# Altium footprint library STM32F103RET6.PcbLib: 24 footprints (part 1 of 2)
Each footprint in its own frame and in the unit in brackets; x right, y up, seen from the top. Pads: shape width x height; smd on the part's side, far side on the other; paste and mask are expansions set on the pad; w line width, h text height; cw(c..) or ccw(c..) is an arc to the next point about the centre after c.
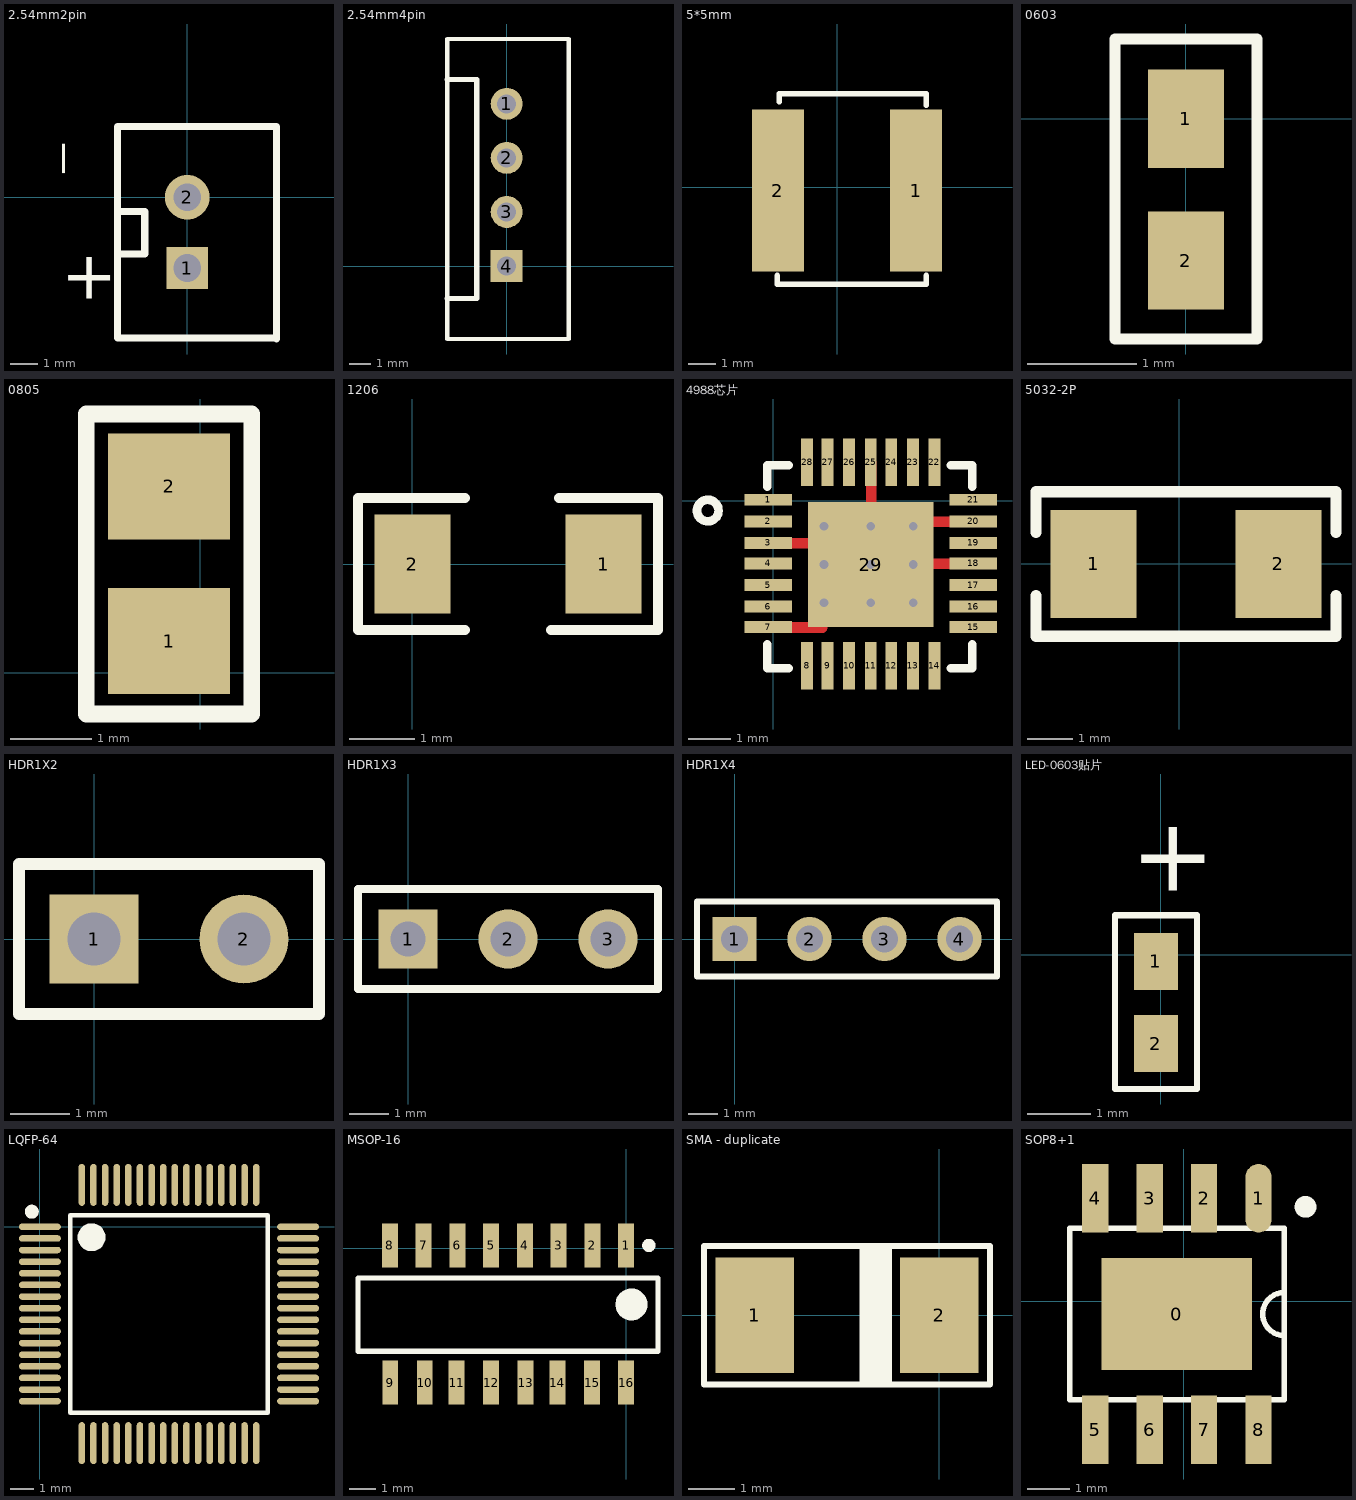
[diagram p0: the footprints below, top view; thin cyan lines are the x and y axes]

## 2.54mm2pin [mm]
pads (2):
  rect 1.5x1.5 hole 1: 1(0,-2.54)
  round 1.6 hole 1: 2(0,0)
Top Overlay:
  lines w0.254: -2.5,-2.032 -1.524,-2.032 -1.524,-0.508 -2.5,-0.508 ; -0.508,-5.04 3.16,-5.04 ; 0.04,-5.04 -2.5,-5.04 -2.5,-3.516 -2.5,2.54 3.2,2.54 3.2,-5.08
  text "-" at -2.5,0.671 h5
  text "+" at -4.511,-4.214 h3

## 2.54mm4pin [mm]
pads (4):
  round 1.5 hole 0.9: 1(0,7.62) 2(0,5.08) 3(0,2.54)
  rect 1.5x1.5 hole 0.9: 4(0,0)
Top Overlay:
  lines w0.2: -2.794,-3.429 -2.794,10.668 2.921,10.668 2.921,-3.429 -2.794,-3.429
  lines w0.254: -2.794,-1.524 -1.524,-1.524 -1.397,-1.524 -1.397,8.763 -2.794,8.763

## 5*5mm [mil]
pads (2):
  rect 75x235 smd mask+2: 1(114.09,-5.15) 2(-86.15,-5.15)
Top Overlay:
  lines w8: -87,-128.15 -87,-141.15 129.09,-141.15 129.09,-128.15 ; -84,123.85 -84,135.85 129.09,135.85 129.09,118.85

## 0603 [mm]
pads (2):
  rect 0.7x0.9 smd: 1(0,0) 2(0,-1.3)
Top Overlay:
  lines w0.1: -0.65,-2.019 0.65,-2.019 0.65,0.731 -0.65,0.731 -0.65,-2.019

## 0805 [mm]
pads (2):
  rect 1.5x1.3 smd: 1(-0.381,0.386) 2(-0.381,2.286)
Top Overlay:
  lines w0.203: -1.397,-0.508 -1.397,3.175 0.635,3.175 0.635,-0.508 -1.397,-0.508

## 1206 [mil]
pads (2):
  rect 46x60 smd: 1(116,0) 2(0,0)
Top Overlay:
  lines w6: 32,-40 -33,-40 -33,40 32,40 ; 84,-40 149,-40 149,40 89,40

## 4988芯片 [mil]
pads (29):
  rect 44x11 smd: 1(-4.45,0.94) 2(-4.45,-19.06) 3(-4.45,-39.06) 4(-4.45,-58.06) 5(-4.45,-78.06) 6(-4.45,-98.06) 7(-4.45,-117.06) 15(185.55,-117.06) 16(185.55,-98.06) 17(185.55,-78.06) 18(185.55,-58.06) 19(185.55,-39.06) 20(185.55,-19.06) 21(185.55,0.94)
  rect 11x44 smd: 8(31.55,-153.06) 9(50.55,-153.06) 10(70.55,-153.06) 11(90.55,-153.06) 12(109.55,-153.06) 13(129.55,-153.06) 14(149.55,-153.06) 22(149.55,35.94) 23(129.55,35.94) 24(109.55,35.94) 25(90.55,35.94) 26(70.55,35.94) 27(50.55,35.94) 28(31.55,35.94)
  rect 116x116 / inner rect 116x116 / far side rect 122x122 hole 1: 29(90.55,-59.06)
via 47.24,-23.62 diameter 15 hole 8
via 90.55,-23.62 diameter 15 hole 8
via 129.92,-23.62 diameter 15 hole 8
via 129.92,-59.06 diameter 15 hole 8
via 90.55,-59.06 diameter 15 hole 8
via 47.24,-59.06 diameter 15 hole 8
via 129.92,-94.49 diameter 15 hole 8
via 90.55,-94.49 diameter 15 hole 8
via 47.24,-94.49 diameter 15 hole 8
Top Layer:
  lines w10: -3.94,-117.37 45.61,-117.37 ; -3.94,-39.37 68.92,-39.37 ; 91.06,-59.37 91.06,35.63 ; 107.98,-19.37 186.06,-19.37 ; 115.48,-58.37 186.06,-58.37
Top Overlay:
  circle w8: c-60.45,-9.06 r10
  lines w8: -5.45,-133.06 -5.45,-155.06 14.55,-155.06 ; -5.45,12.94 -5.45,32.94 14.55,32.94 ; 164.55,-155.06 184.55,-155.06 184.55,-133.06 ; 164.55,32.94 184.55,32.94 184.55,12.94

## 5032-2P [mm]
pads (2):
  rect 1.9x2.4 smd: 1(-1.9,0) 2(2.2,0)
Top Overlay:
  lines w0.254: -3.175,-0.7 -3.175,-1.6 3.475,-1.6 3.475,-0.7 ; -3.175,0.7 -3.175,1.6 3.475,1.6 3.475,0.7

## HDR1X2 [mm]
pads (2):
  rect 1.5x1.5 hole 0.9: 1(0,0)
  round 1.5 hole 0.9: 2(2.54,0)
Top Overlay:
  lines w0.2: -1.27,-1.27 -1.27,1.27 3.81,1.27 3.81,-1.27 -1.27,-1.27

## HDR1X3 [mm]
pads (3):
  rect 1.5x1.5 hole 0.9: 1(0,0)
  round 1.5 hole 0.9: 2(2.54,0) 3(5.08,0)
Top Overlay:
  lines w0.2: -1.27,-1.27 -1.27,1.27 6.35,1.27 6.35,-1.27 -1.27,-1.27

## HDR1X4 [mm]
pads (4):
  rect 1.5x1.5 hole 0.9: 1(0,0)
  round 1.5 hole 0.9: 2(2.54,0) 3(5.08,0) 4(7.62,0)
Top Overlay:
  lines w0.2: -1.27,-1.27 8.89,-1.27 8.89,1.27 -1.27,1.27 -1.27,-1.27

## LED-0603贴片 [mm]
pads (2):
  rect 0.7x0.9 smd: 1(-0.075,-0.106) 2(-0.075,-1.406)
Top Overlay:
  lines w0.1: -0.725,-2.125 0.575,-2.125 0.575,0.625 -0.725,0.625 -0.725,-2.125
  text "+" at -0.475,0.625 h2

## LQFP-64 [mm]
pads (64):
  oval 1.8x0.28 smd mask+0.051: 1(0,0) 2(0,-0.5) 3(0,-1) 4(0,-1.5) 5(0,-2) 6(0,-2.5) 7(0,-3) 8(0,-3.5) 9(0,-4) 10(0,-4.5) 11(0,-5) 12(0,-5.5) 13(0,-6) 14(0,-6.5) 15(0,-7) 16(0,-7.5) 33(11.1,-7.5) 34(11.1,-7) 35(11.1,-6.5) 36(11.1,-6) 37(11.1,-5.5) 38(11.1,-5) 39(11.1,-4.5) 40(11.1,-4) 41(11.1,-3.5) 42(11.1,-3) 43(11.1,-2.5) 44(11.1,-2) 45(11.1,-1.5) 46(11.1,-1) 47(11.1,-0.5) 48(11.1,0)
  oval 0.28x1.8 smd mask+0.051: 17(1.8,-9.3) 18(2.3,-9.3) 19(2.8,-9.3) 20(3.3,-9.3) 21(3.8,-9.3) 22(4.3,-9.3) 23(4.8,-9.3) 24(5.3,-9.3) 25(5.8,-9.3) 26(6.3,-9.3) 27(6.8,-9.3) 28(7.3,-9.3) 29(7.8,-9.3) 30(8.3,-9.3) 31(8.8,-9.3) 32(9.3,-9.3) 49(9.3,1.8) 50(8.8,1.8) 51(8.3,1.8) 52(7.8,1.8) 53(7.3,1.8) 54(6.8,1.8) 55(6.3,1.8) 56(5.8,1.8) 57(5.3,1.8) 58(4.8,1.8) 59(4.3,1.8) 60(3.8,1.8) 61(3.3,1.8) 62(2.8,1.8) 63(2.3,1.8) 64(1.8,1.8)
Top Overlay:
  circle w0.6: c2.225,-0.45 r0.3
  circle w0.3: c-0.35,0.65 r0.15
  lines w0.2: 1.3,-8 9.8,-8 9.8,0.5 1.3,0.5 1.3,-8

## MSOP-16 [mm]
pads (16):
  rect 0.6x1.65 smd: 1(0,0.107) 2(-1.27,0.107) 3(-2.54,0.107) 4(-3.81,0.107) 5(-5.08,0.107) 6(-6.35,0.107) 7(-7.62,0.107) 8(-8.89,0.107) 9(-8.881,-5.061) 10(-7.581,-5.061) 11(-6.381,-5.061) 12(-5.081,-5.061) 13(-3.781,-5.061) 14(-2.581,-5.061) 15(-1.281,-5.061) 16(0,-5.061)
Top Overlay:
  circle w0.25: c0.86,0.107 r0.125
  circle w0.6: c0.205,-2.118 r0.3
  lines w0.2: -10.095,-3.88 -10.095,-1.118 1.205,-1.118 1.205,-2.733 1.205,-3.88 -10.095,-3.88

## SMA - duplicate [mm]
pads (2):
  rect 1.7x2.5 smd: 1(-4,0) 2(0,0)
Top Overlay:
  rectangle: -1.725,-1.448 -1.025,1.552
  lines w0.127: -5.1,-1.5 -5.1,1.5 -1.9,1.5 1.1,1.5 1.1,-1.5 -5.1,-1.5

## SOP8+1 [mm]
pads (9):
  rect 3.51x2.62 smd: 0(-0.153,-0.298)
  oval 0.61x1.6 smd: 1(1.752,2.402)
  rect 0.61x1.6 smd: 2(0.482,2.402) 3(-0.788,2.402) 4(-2.058,2.402) 5(-2.058,-2.998) 6(-0.788,-2.998) 7(0.482,-2.998) 8(1.752,-2.998)
Top Overlay:
  circle w0.254: c2.847,2.202 r0.127
  lines w0.127: 2.347,-0.798 cw(c2.347,-0.298) 2.347,0.202 ; -2.653,-2.298 -2.653,1.702 2.347,1.702 2.347,-2.298 -2.653,-2.298